# Altium schematic symbol library Miscellaneous Connectors.SchLib: 30 symbols
Pins are listed as number, name and electrical type; pins without a type are passive.

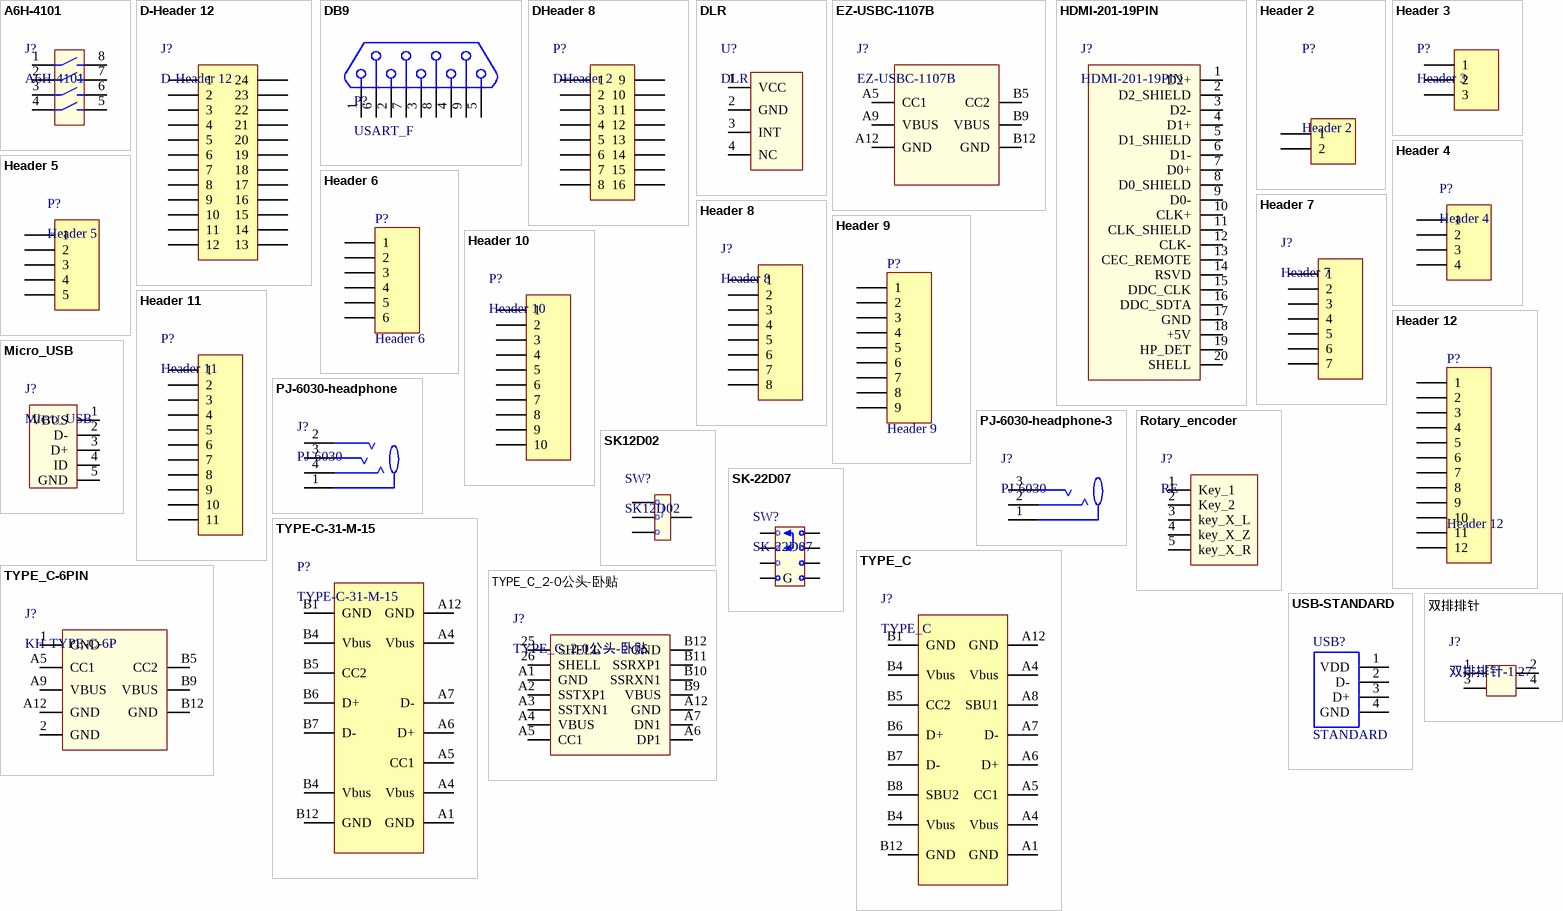
[diagram p0: symbols A6H-4101 to 双排排针]

## A6H-4101
designator J?
footprint SW-SMD_A6H-410X
pins: 1, 2, 3, 4, 5, 6, 7, 8

## D-Header 12
designator J?
footprint D1001-12
footprint D1001-12-排母
pins: 1, 2, 3, 4, 5, 6, 7, 8, 9, 10, 11, 12, 13, 14, 15, 16, 17, 18, 19, 20, 21, 22, 23, 24

## DB9
designator P?, comment USART_F
footprint DB9SLW
pins: 1, 2, 3, 4, 5, 6, 7, 8, 9

## DHeader 8
designator P?, comment DHeader 2
footprint D1001-8
pins: 1, 2, 3, 4, 5, 6, 7, 8, 9, 10, 11, 12, 13, 14, 15, 16

## DLR
designator U?
footprint DLR
pins: 1 VCC, 2 GND, 3 INT, 4 NC

## EZ-USBC-1107B
designator J?
footprint EZ-USBC-1107B
pins: A5 CC1, A9 VBUS, A12 GND, B5 CC2, B9 VBUS, B12 GND

## HDMI-201-19PIN
designator J?
footprint HDMI-SMD_HDMI-201-19PIN
pins: 1 D2+, 2 D2_SHIELD, 3 D2-, 4 D1+, 5 D1_SHIELD, 6 D1-, 7 D0+, 8 D0_SHIELD, 9 D0-, 10 CLK+, 11 CLK_SHIELD, 12 CLK-, 13 CEC_REMOTE, 14 RSVD, 15 DDC_CLK, 16 DDC_SDTA, 17 GND, 18 +5V, 19 HP_DET, 20 SHELL

## Header 2
designator P?
footprint Header 2 2.54
footprint 1001-2
footprint SW3dPS-rapc722
footprint XH2.54-2P-弯针
footprint Header 2 2.0
footprint Header 2 2.0-直针
footprint 1001-2-2.0
footprint XH3.96-2P-直插
footprint HY2.54mmPH带锁-2P
footprint DC-沉板-大电流
footprint CONN-SMD_PH2.0-1X2PW
footprint ZH1.5mm
footprint SMD_P2.00_HX20007-2AWB
footprint SMD_2P-P2.50_HX25003-2AWB
footprint SMD_A1501WV-S-02P
footprint ZH1.5LT-2P
footprint CONN-SMD_P1.25_HX12501-2AB
footprint DC050
footprint CONN-TH_XY126V-5.0-2P
footprint CONN-SMD_2P-P1.50_ZX-ZH1.5-2PWT
footprint Header 2 2.54-2.0
footprint CONN-SMD_P1.25_HX12501-2AB-LT
pins: 1, 2

## Header 3
designator P?
footprint 1001-3
footprint XH2.54-3P-弯针
footprint 立贴1.25MM立式贴片座子-3P
footprint Header 3 1.25-直针
footprint SMD_3P-P1.25_L4.4-W8.6
footprint SMD_3P-P2.50_DEALON_XH-3PS
footprint Header 3 2.0-直针
footprint SMD_3P-P2.5-AFC25-S03CCA-00
footprint CONN-SMD_3P-P1.50_ZX-ZH1.5-3PLT
footprint CONN-SMD_3P-P1.50_ZX-ZH1.5-3PWT
footprint CONN-TH_3P-P2.54_2501S-3P
footprint CONN-TH_3P-P2.00_HCTL_PH-3AW
footprint SMD_3P-P2.00_XUNPU_WAFER-PH2.0-3PLB
footprint CONN-SMD_3P-P2.00_XUNPU_WAFER-PH2.0-3PWB
pins: 1, 2, 3

## Header 4
designator P?
footprint Header 4 2.54
footprint 1001-4
footprint Header 4 2.0
footprint Header 4 2.0-弯针
footprint HY2.54mmPH带锁-4P
footprint SMD_KH-CL0.5-H2.0-4PIN
footprint Header 4 1.25-直针
footprint FPC-SMD_AFA07-S04FCC
footprint SMD_4P-P1.50_ZX-ZH1.5-4PLT
footprint CONN-SMD_4P-P2.00_HX-2.0-4P-LT
pins: 1, 2, 3, 4

## Header 5
designator P?
footprint Header 5 2.54
footprint 1001-5
footprint Header 5 2.0
footprint Header 5 1.25-直针
footprint CONN-SMD_5P-P1.25_HCTL_HC-1.25-5PWT
footprint CONN-TH_5P-P1.25_WZ-MS
footprint Header 5 2.0-弯针
footprint CONN-SMD_5P-P1.50_HX-1.5-5P-WT
pins: 1, 2, 3, 4, 5

## Header 6
designator P?
LatestRevisionDate: 17-Jul-2002; LatestRevisionNote: Re-released for DXP Platform.; Publisher: Altium Limited
footprint Header 6 2.54
footprint 1001-6
footprint 1.27贴片双排母-6P
footprint 1.27贴片双排针-6P
footprint SMD_KH-CL0.5-H2.0-6PIN
footprint 贴片1.0座子6PIN
footprint 直插件1.0座子6PIN
footprint Header 6 2.0
footprint CONN-SMD_6P-P2.50_HX25003-6AWB
footprint CONN-SMD_6P-P2.00_HX-2.0-6P-WT
footprint CONN-SMD_6P-P2.00_HX-2.0-6P-LT
pins: 1, 2, 3, 4, 5, 6

## Header 7
designator J?
footprint 1001-7
footprint HY2mmPH带锁-7P
footprint HY2mmPH带锁-7P-弯插
pins: 1, 2, 3, 4, 5, 6, 7

## Header 8
designator J?
footprint 1001-8
footprint Header 8 2.0
pins: 1, 2, 3, 4, 5, 6, 7, 8

## Header 9
designator P?
LatestRevisionDate: 17-Jul-2002; LatestRevisionNote: Re-released for DXP Platform.; Publisher: Altium Limited
footprint Header 9 2.54
footprint 1001-9
footprint CONN-TH_9P-P2.00_HCTL_PH-9AW
footprint CONN-TH_XH-9AW-P2.5
footprint CONN-TH_XH-9AW-P2.54
pins: 1, 2, 3, 4, 5, 6, 7, 8, 9

## Header 10
designator P?
footprint Header 10 2.0
footprint HY2mmPH带锁-10P
footprint Header 10 1.25-直针
footprint FPC-SMD_10P-P1.0_FGS-XJ-H2.0
pins: 1, 2, 3, 4, 5, 6, 7, 8, 9, 10

## Header 11
designator P?
footprint 1001-11
pins: 1, 2, 3, 4, 5, 6, 7, 8, 9, 10, 11

## Header 12
designator P?
LatestRevisionDate: 17-Jul-2002; LatestRevisionNote: Re-released for DXP Platform.; Publisher: Altium Limited
footprint Header 12 2.54
footprint 1001-12
pins: 1, 2, 3, 4, 5, 6, 7, 8, 9, 10, 11, 12

## Micro_USB
designator J?
footprint MicroUSB-5PIN
footprint MICRO 180°ZB
pins: 1 VBUS, 2 D-, 3 D+, 4 ID, 5 GND

## PJ-6030-headphone
designator J?, comment PJ-6030
footprint PJ-6030-headphone
pins: 1, 2, 3, 4

## PJ-6030-headphone-3
designator J?, comment PJ-6030
footprint PJ-6030-headphone-3
pins: 1, 2, 3

## Rotary_encoder
designator J?, comment RE
footprint Rotary_encoder
footprint Rotary_encoder-贴片式
pins: 1 Key_1, 2 Key_2, 3 key_X_L, 4 key_X_Z, 5 key_X_R

## SK12D02
designator SW?
footprint SK-12F14_G7
footprint SK-12F14_G7_插件
footprint SS-12D07G3
footprint SMD_SK-12F14_G7
footprint SMD_SS-12D07G3
pins: 1, 2, 3, 4

## SK-22D07
designator SW?
footprint SK-22D07-VG4
pins: 1, 2, 3, 4, 5, 6, 7 G, 8

## TYPE-C-31-M-15
designator P?
footprint USBC-TH_TYPE-C-31-M-15
pins: A1 GND, A4 Vbus, A4 Vbus, A5 CC1, A6 D+, A7 D-, A12 GND, B1 GND, B4 Vbus, B4 Vbus, B5 CC2, B6 D+, B7 D-, B12 GND

## TYPE_C
designator J?
footprint USBC
footprint TYPE-C母座立贴
footprint SMD_TYPEC-303-ACP16
footprint TYPE-C-TH_16PLC-H10.0
pins: A1 GND, A4 Vbus, A4 Vbus, A5 CC1, A6 D+, A7 D-, A8 SBU1, A12 GND, B1 GND, B4 Vbus, B4 Vbus, B5 CC2, B6 D+, B7 D-, B8 SBU2, B12 GND

## TYPE_C-6PIN
designator J?, comment KH-TYPE-C-6P
footprint SMD-KH-TYPE-C-6P
footprint USB-C-SMD_TYPE-C-6P-LT6.8-073
footprint USB-C-TH_TYPE-C-6PLCH10.0-073
pins: 1 GND, 2 GND, A5 CC1, A9 VBUS, A12 GND, B5 CC2, B9 VBUS, B12 GND

## TYPE_C_2-0公头-卧贴
designator J?
footprint USB-C-SMD_U261-121N-4BS2S
pins: 25 SHELL, 26 SHELL, A1 GND, A2 SSTXP1, A3 SSTXN1, A4 VBUS, A5 CC1, A6 DP1, A7 DN1, A12 GND, B9 VBUS, B10 SSRXN1, B11 SSRXP1, B12 GND

## USB-STANDARD
designator USB?, comment STANDARD
footprint USB-板上型，前叉后贴
footprint USB-贴片 (USB2.0)
footprint U-A-24DD-Y-2
footprint U-A-24DD-Y-2-Orange
footprint KH-AF90CWJ-14JB-OX
footprint U-USBAR04P-M003
footprint USB-A-SMD_915-121A2026S10200
footprint AF_10_0_QT_ZB6_8
pins: 1 VDD, 2 D-, 3 D+, 4 GND

## 双排排针
designator J?, comment 双排排针-1.27
footprint 1.27贴片双排母-4P
pins: 1, 2, 3, 4